# EAGLE library part COPERNICUS (library SparkFun)
Copernicus Massively edited and tweaked footprint to meet the Trimble recommended layout and paste layer. Footprint production proven. Spark Fun Electronics SKU : GPS-07951
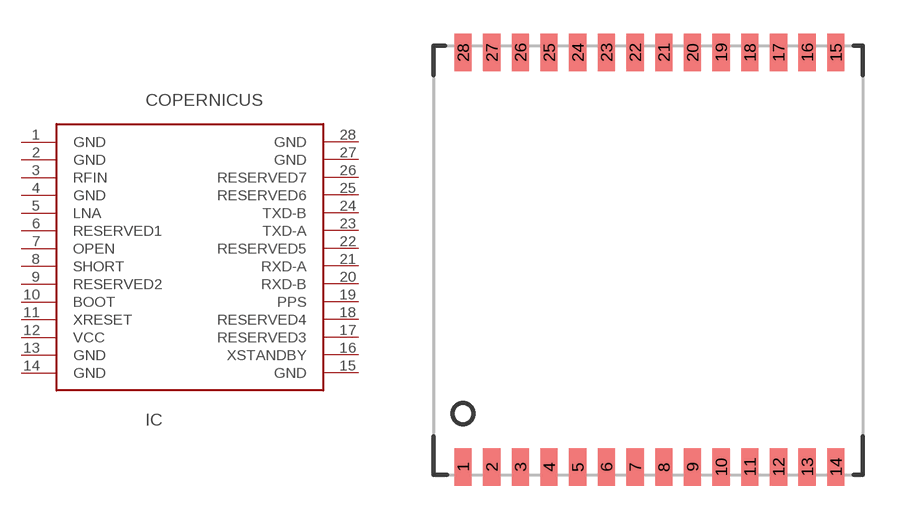
[diagram p40: symbol with the pads of COPERNICUS; footprint COPERNICUS]

Designator prefix IC

## COPERNICUSSMD  [COPERNICUS]
1  GND
2  GND
3  RFIN
4  GND
5  LNA
6  RESERVED1
7  OPEN
8  SHORT
9  RESERVED2
10  BOOT
11  XRESET
12  VCC
13  GND
14  GND
15  GND
16  XSTANDBY
17  RESERVED3
18  RESERVED4
19  PPS
20  RXD-B
21  RXD-A
22  RESERVED5
23  TXD-A
24  TXD-B
25  RESERVED6
26  RESERVED7
27  GND
28  GND

## Footprint COPERNICUS (pad centres in mm)
smd 0.762 x 1.651: 1 0,-18.364; 2 1.27,-18.364; 3 2.54,-18.364; 4 3.81,-18.364; 5 5.08,-18.364; 6 6.35,-18.364; 7 7.62,-18.364; 8 8.89,-18.364; 9 10.16,-18.364; 10 11.43,-18.364; 11 12.7,-18.364; 12 13.97,-18.364; 13 15.24,-18.364; 14 16.51,-18.364; 15 16.51,0; 16 15.24,0; 17 13.97,0; 18 12.7,0; 19 11.43,0; 20 10.16,0; 21 8.89,0; 22 7.62,0; 23 6.35,0; 24 5.08,0; 25 3.81,0; 26 2.54,0; 27 1.27,0; 28 0,0